# EAGLE library part MCP49X1 (library DigitalICs)
MCP49x1 8-bit, 10-bit or 12-bit DAC
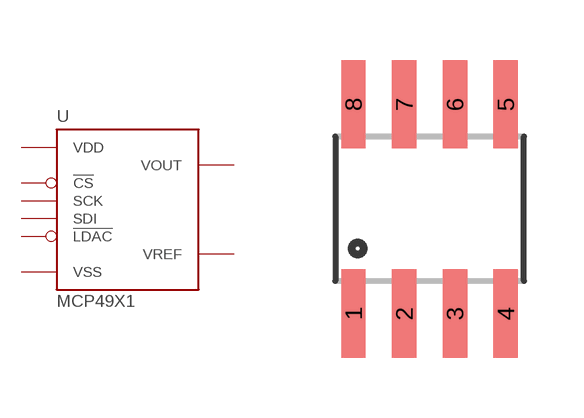
[diagram p2: symbol with the pads of SO08; footprint SO08]

Designator prefix U

## MCP49X1SOIC-8N  [SO08]
1  VDD
2  !CS
3  SCK
4  SDI
5  !LDAC
6  VREF
7  VSS
8  VOUT

## Footprint SO08 (pad centres in mm)
Small Outline Package Fits JEDEC packages (narrow SOIC-8)
smd 0.61 x 2.21: 1 -1.905,-2.616; 2 -0.635,-2.616; 3 0.635,-2.616; 4 1.905,-2.616; 5 1.905,2.616; 6 0.635,2.616; 7 -0.635,2.616; 8 -1.905,2.616